# Altium footprint library MergenElektronik_Connectors_MicroSD.PcbLib: 1 footprints
Each footprint in its own frame and in the unit in brackets; x right, y up, seen from the top. Pads: shape width x height; smd on the part's side, far side on the other; paste and mask are expansions set on the pad; w line width, h text height; cw(c..) or ccw(c..) is an arc to the next point about the centre after c.
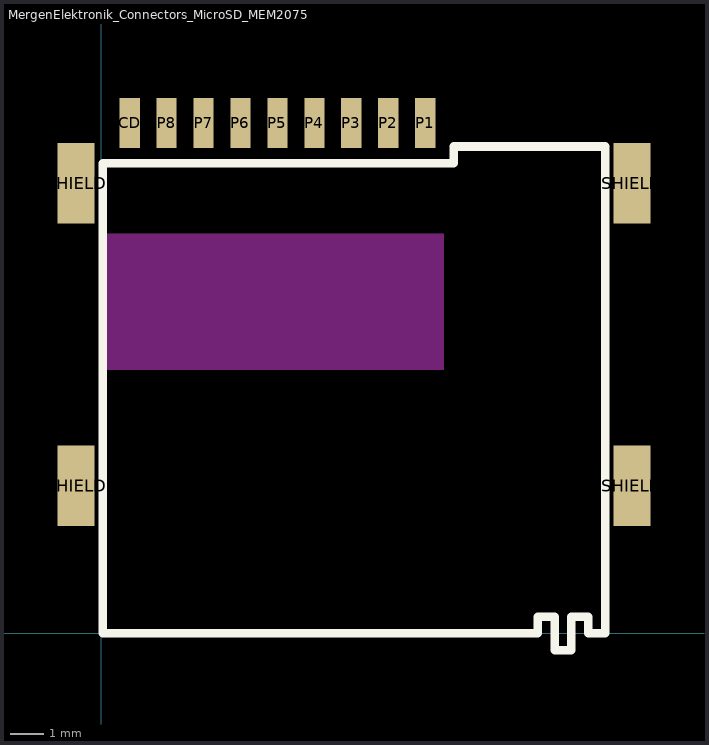
[diagram p0: the footprint, top view; thin cyan lines are the x and y axes]

## MergenElektronik_Connectors_MicroSD_MEM2075 [mm] "Mergen Elektronik - Connectors - SD Card Connectors - MEM2075"
pads (13):
  rect 0.6x1.5 smd: CD(0.845,15.2) P1(9.645,15.2) P2(8.545,15.2) P3(7.445,15.2) P4(6.345,15.2) P5(5.245,15.2) P6(4.145,15.2) P7(3.045,15.2) P8(1.945,15.2)
  rect 1.1x2.4 smd: SHIELD(-0.75,4.4) SHIELD(-0.75,13.4) SHIELD(15.8,4.4) SHIELD(15.8,13.4)
Top Overlay:
  lines w0.254: 0.05,0 0.05,14 0.3,14 10.5,14 10.5,14.5 15,14.5 15,0 14.5,0 14.5,0.5 14,0.5 14,0 14,-0.5 13.5,-0.5 13.5,0 13.5,0.5 13,0.5 13,0 0.05,0
Keep-Out Layer:
  region: 0,7.85 10.2,7.85 10.2,11.9 0,11.9
3D body: height 1.4, standoff -0.6, extent -0.7,0 15.74,15.85